# EAGLE library part STM32F76XVXT (library STMicroelectronics)
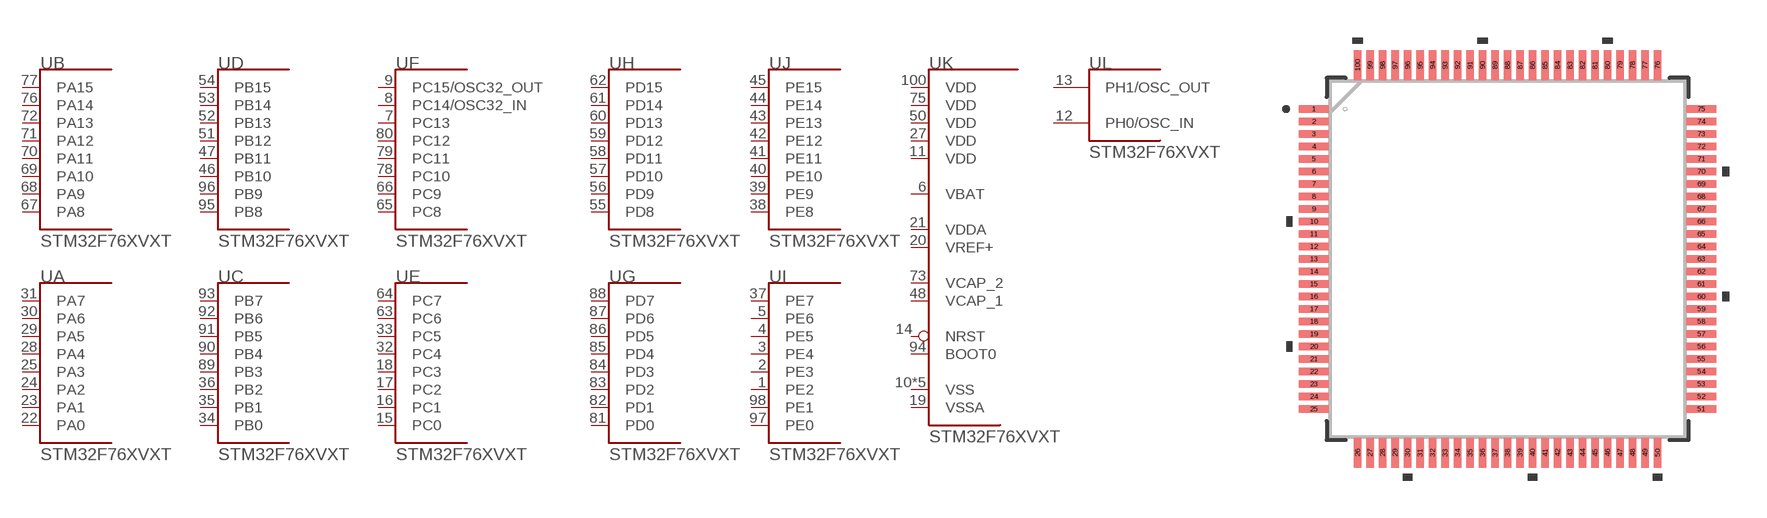
[diagram p2: symbol with the pads of LQFP-100_14X14MM; footprint LQFP-100_14X14MM]

Designator prefix U; gates A=STM32F_PORTA_L B=STM32F_PORTA_H C=STM32F_PORTB_L D=STM32F_PORTB_H E=STM32F_PORTC_L F=STM32F_PORTC_H G=STM32F_PORTD_L H=STM32F_PORTD_H I=STM32F_PORTE_L J=STM32F_PORTE_H K=STM32F76XVX_POWER L=STM32F_PORTH_L

## STM32F76XVXT (DISTRIBUTOR: RS; ORDER_CODE: 111-6469)  [LQFP-100_14X14MM]
1  I:PE2
2  I:PE3
3  I:PE4
4  I:PE5
5  I:PE6
6  K:VBAT  pwr
7  F:PC13
8  F:PC14/OSC32_IN
9  F:PC15/OSC32_OUT
10  K:VSS  pwr
11  K:VDD  pwr
12  L:PH0/OSC_IN  in
13  L:PH1/OSC_OUT  out
14  K:NRST  in
15  E:PC0
16  E:PC1
17  E:PC2
18  E:PC3
19  K:VSSA  pwr
20  K:VREF+  pas
21  K:VDDA  pwr
22  A:PA0
23  A:PA1
24  A:PA2
25  A:PA3
26  K:VSS  pwr
27  K:VDD  pwr
28  A:PA4
29  A:PA5
30  A:PA6
31  A:PA7
32  E:PC4
33  E:PC5
34  C:PB0
35  C:PB1
36  C:PB2
37  I:PE7
38  J:PE8
39  J:PE9
40  J:PE10
41  J:PE11
42  J:PE12
43  J:PE13
44  J:PE14
45  J:PE15
46  D:PB10
47  D:PB11
48  K:VCAP_1  pas
49  K:VSS  pwr
50  K:VDD  pwr
51  D:PB12
52  D:PB13
53  D:PB14
54  D:PB15
55  H:PD8
56  H:PD9
57  H:PD10
58  H:PD11
59  H:PD12
60  H:PD13
61  H:PD14
62  H:PD15
63  E:PC6
64  E:PC7
65  F:PC8
66  F:PC9
67  B:PA8
68  B:PA9
69  B:PA10
70  B:PA11
71  B:PA12
72  B:PA13
73  K:VCAP_2  pas
74  K:VSS  pwr
75  K:VDD  pwr
76  B:PA14
77  B:PA15
78  F:PC10
79  F:PC11
80  F:PC12
81  G:PD0
82  G:PD1
83  G:PD2
84  G:PD3
85  G:PD4
86  G:PD5
87  G:PD6
88  G:PD7
89  C:PB3
90  C:PB4
91  C:PB5
92  C:PB6
93  C:PB7
94  K:BOOT0
95  D:PB8
96  D:PB9
97  I:PE0
98  I:PE1
99  K:VSS  pwr
100  K:VDD  pwr

## Footprint LQFP-100_14X14MM (pad centres in mm)
smd 1.2 x 0.3: 1 -7.75,6; 2 -7.75,5.5; 3 -7.75,5; 4 -7.75,4.5; 5 -7.75,4; 6 -7.75,3.5; 7 -7.75,3; 8 -7.75,2.5; 9 -7.75,2; 10 -7.75,1.5; 11 -7.75,1; 12 -7.75,0.5; 13 -7.75,0; 14 -7.75,-0.5; 15 -7.75,-1; 16 -7.75,-1.5; 17 -7.75,-2; 18 -7.75,-2.5; 19 -7.75,-3; 20 -7.75,-3.5; 21 -7.75,-4; 22 -7.75,-4.5; 23 -7.75,-5; 24 -7.75,-5.5; 25 -7.75,-6; 51 7.75,-6; 52 7.75,-5.5; 53 7.75,-5; 54 7.75,-4.5; 55 7.75,-4; 56 7.75,-3.5; 57 7.75,-3; 58 7.75,-2.5; 59 7.75,-2; 60 7.75,-1.5; 61 7.75,-1; 62 7.75,-0.5; 63 7.75,0; 64 7.75,0.5; 65 7.75,1; 66 7.75,1.5; 67 7.75,2; 68 7.75,2.5; 69 7.75,3; 70 7.75,3.5; 71 7.75,4; 72 7.75,4.5; 73 7.75,5; 74 7.75,5.5; 75 7.75,6
smd 0.3 x 1.2: 26 -6,-7.75; 27 -5.5,-7.75; 28 -5,-7.75; 29 -4.5,-7.75; 30 -4,-7.75; 31 -3.5,-7.75; 32 -3,-7.75; 33 -2.5,-7.75; 34 -2,-7.75; 35 -1.5,-7.75; 36 -1,-7.75; 37 -0.5,-7.75; 38 0,-7.75; 39 0.5,-7.75; 40 1,-7.75; 41 1.5,-7.75; 42 2,-7.75; 43 2.5,-7.75; 44 3,-7.75; 45 3.5,-7.75; 46 4,-7.75; 47 4.5,-7.75; 48 5,-7.75; 49 5.5,-7.75; 50 6,-7.75; 76 6,7.75; 77 5.5,7.75; 78 5,7.75; 79 4.5,7.75; 80 4,7.75; 81 3.5,7.75; 82 3,7.75; 83 2.5,7.75; 84 2,7.75; 85 1.5,7.75; 86 1,7.75; 87 0.5,7.75; 88 0,7.75; 89 -0.5,7.75; 90 -1,7.75; 91 -1.5,7.75; 92 -2,7.75; 93 -2.5,7.75; 94 -3,7.75; 95 -3.5,7.75; 96 -4,7.75; 97 -4.5,7.75; 98 -5,7.75; 99 -5.5,7.75; 100 -6,7.75